# Altium schematic symbol library trophee-rgb.SCHLIB: 21 symbols
Pins are listed as number, name and electrical type; pins without a type are passive.

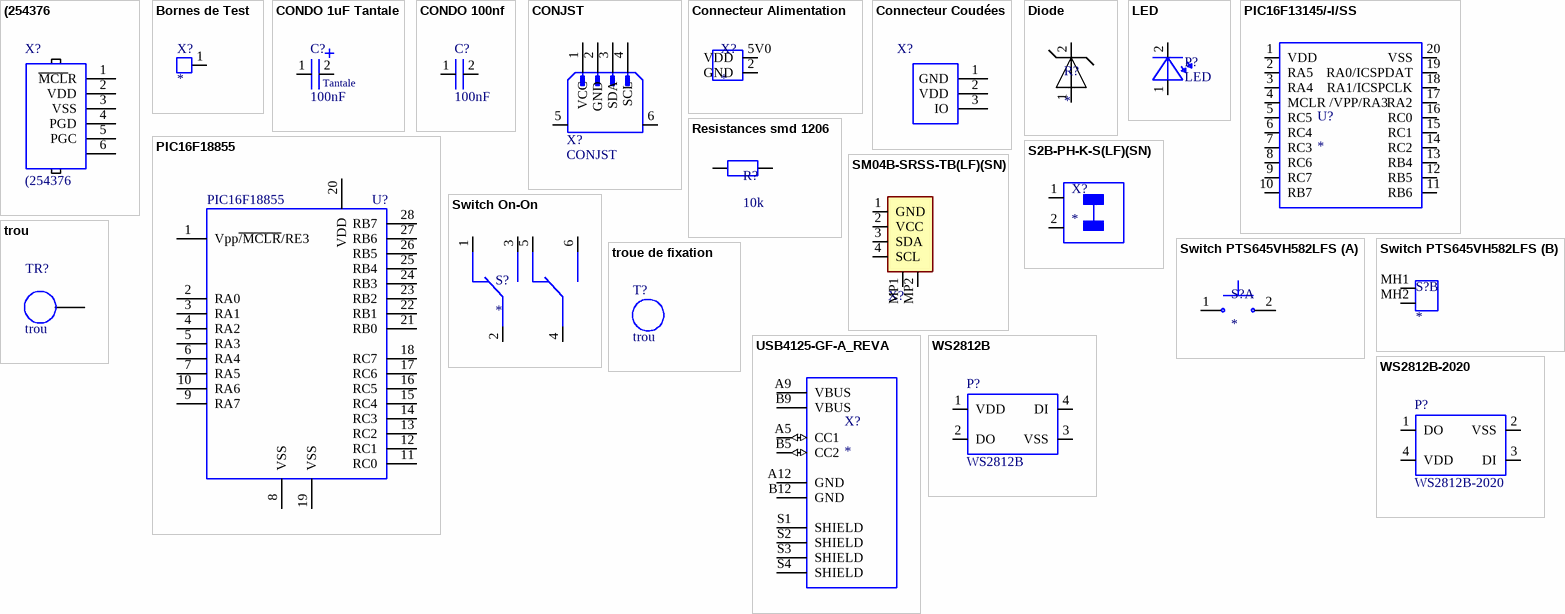
[diagram p0: symbols (254376 to WS2812B-2020]

## (254376
designator X?
footprint Connecteur AMP
pins: 1 ~{MCL}R, 2 VDD, 3 VSS, 4 PGD, 5 PGC, 6

## Bornes de Test
designator X?
Fiches plates pour point de test / mesure
footprint Bornes de test
pins: 1

## CONDO 1uF Tantale
designator C?, comment 100nF
0805
footprint C_0805 tantale (Condensateur 0805)
pins: 1, 2
text: Tantale

## CONDO 100nf
designator C?, comment 100nF
0805
footprint C_0805 ceramique (Condensateur 0805)
pins: 1, 2

## CONJST
designator X?
footprint CONJST (Connecteur I2C couché (grand))
pins: 1 VCC, 2 GND, 3 SDA, 4 SCL, 5, 6

## Connecteur Alimentation
designator X?
footprint Connecteur Alimentation
pins: 2 GND, 5V0 VDD

## Connecteur Coudées
designator X?, comment pitch 2.54mm  (value not drawn)
footprint Connecteur Coudé (pitch 100mil)
pins: 1 GND, 2 VDD, 3 IO

## Diode
designator R?
Protection d'inversion de polarité
footprint Diode Protection
pins: 1, 2

## LED
designator P?
footprint LED
pins: 1, 2

## PIC16F13145/-I/SS
designator U?
20 pins
footprint PIC16F13145/-I/SS
pins: 1 VDD, 2 RA5, 3 RA4, 4 MCLR /VPP/RA3, 5 RC5, 6 RC4, 7 RC3, 8 RC6, 9 RC7, 10 RB7, 11 RB6, 12 RB5, 13 RB4, 14 RC2, 15 RC1, 16 RC0, 17 RA2, 18 RA1/ICSPCLK, 19 RA0/ICSPDAT, 20 VSS

## PIC16F18855
designator U?
footprint 16F18855
pins: 1 Vpp~{/MCLR}/RE3, 2 RA0, 3 RA1, 4 RA2, 5 RA3, 6 RA4, 7 RA5, 8 VSS, 9 RA7, 10 RA6, 11 RC0, 12 RC1, 13 RC2, 14 RC3, 15 RC4, 16 RC5, 17 RC6, 18 RC7, 19 VSS, 20 VDD, 21 RB0, 22 RB1, 23 RB2, 24 RB3, 25 RB4, 26 RB5, 27 RB6, 28 RB7

## Resistances smd 1206
designator R?, comment 10k
Resistance 1206; Part Number: ERA6AEB472V; Manufacturer: Panasonic; Manufacturer Part Number 1: ERA-6AEB472V; Manufacturer 1: Panasonic
footprint Resistances 1206 (Chip Resistor, 1206)
pins: 1, 2
1 alternate drawing of the same symbol

## S2B-PH-K-S(LF)(SN)
designator X?
Connector Header Through Hole, Right Angle 2 position; MP: S2B-PH-K-S(LF)(SN); MF: JST Sales America Inc.; Price: None; Availability: In Stock; Package: None; Value: *; SnapEDA_Link: https://www.snapeda.com/parts/S2B-PH-K-S(LF)(SN)/JST+Sales+America+Inc./view-part/?ref=snap; Purchase-URL: https://pricing.snapeda.com/search/part/S2B-PH-K-S(LF)(SN)/?ref=eda; Check_prices: https://www.snapeda.com/parts/S2B-PH-K-S(LF)(SN)/JST+Sales+America+Inc./view-part/?ref=eda
footprint JST_S2B-PH-K-S(LF)(SN)
pins: 1, 2

## SM04B-SRSS-TB(LF)(SN)
designator X?  (value not drawn)
SH Series 1.0 mm Pitch 2 Position Single Row Side Entry Shrouded Header; Price: None; Value: *; MP: SM04B-SRSS-TB(LF)(SN); Package: None; Availability: Unavailable
footprint JST_SM04B-SRSS-TB(LF)(SN)
pins: 1 GND, 2 VCC, 3 SDA, 4 SCL, MP1 GND, MP2 GND

## Switch On-On
designator S?
Switch on-on de côté
footprint Slide Switches (Sub-Miniature Slide Switches)
pins: 1, 2, 3, 4, 5, 6

## Switch PTS645VH582LFS
designator S?
footprint Switch_PTS645VH582LFS
part A pins: 1, 2
part B pins: MH1, MH2

## trou
designator TR?
footprint trou
pins: 1 78

## troue de fixation
designator T?, comment trou
footprint troue de fixation

## USB4125-GF-A_REVA
designator X?
USB 2.0 Type C Receptacle, Horizontal, SMT, For Power charging; MP: USB4125-GF-A; MF: Global Connector Technology; SnapEDA_Link: https://www.snapeda.com/parts/USB4125-GF-A/Global%20Connector%20Technology/view-part/5160675/?ref=snap; Package: None; Check_prices: https://www.snapeda.com/parts/USB4125-GF-A/Global%20Connector%20Technology/view-part/5160675/?ref=eda; Value: *; Availability: Unavailable; Price: None
footprint GCT_USB4125-GF-A_REVA (Connecteur USB type C)
pins: A5 CC1 (io), A9 VBUS (power), A12 GND (power), B5 CC2 (io), B9 VBUS (power), B12 GND (power), S1 SHIELD, S2 SHIELD, S3 SHIELD, S4 SHIELD

## WS2812B
designator P?
Leds RGB; Manufacturer: Mouser; Manufacturer Part Number: 474-COM-24837; Part Number: *
footprint WS2812B (Leds rgb)
pins: 1 VDD, 2 DO, 3 VSS, 4 DI

## WS2812B-2020
designator P?
Leds RGB; Manufacturer: Mouser; Manufacturer Part Number: 474-COM-24837; Part Number: *
footprint WS2812B-2020 (Leds rgb)
pins: 1 DO, 2 VSS, 3 DI, 4 VDD